# EAGLE library part CLT-110-01-F-D (library X16_Backplane)
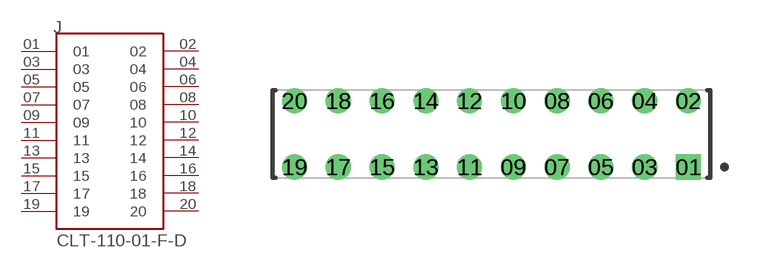
[diagram p7: symbol with the pads of SAMTEC_CLT-110-01-F-D; footprint SAMTEC_CLT-110-01-F-D]

Designator prefix J

## CLT-110-01-F-D (MANUFACTURER: SAMTEC)  [SAMTEC_CLT-110-01-F-D]
01  01  pas
02  02  pas
03  03  pas
04  04  pas
05  05  pas
06  06  pas
07  07  pas
08  08  pas
09  09  pas
10  10  pas
11  11  pas
12  12  pas
13  13  pas
14  14  pas
15  15  pas
16  16  pas
17  17  pas
18  18  pas
19  19  pas
20  20  pas

## Footprint SAMTEC_CLT-110-01-F-D (pad centres in mm)
drill 0.64 pad 1.04 square: 01 9,-1.51
drill 0.64 pad 1.04: 02 9,1.51; 03 7,-1.51; 04 7,1.51; 05 5,-1.51; 06 5,1.51; 07 3,-1.51; 08 3,1.51; 09 1,-1.51; 10 1,1.51; 11 -1,-1.51; 12 -1,1.51; 13 -3,-1.51; 14 -3,1.51; 15 -5,-1.51; 16 -5,1.51; 17 -7,-1.51; 18 -7,1.51; 19 -9,-1.51; 20 -9,1.51